# EAGLE library part CONN_ZIF_502078-3760 (library MOTO_LIB)
CONN ZIF,37CONT,.25MM,1MM HEIGHT,BOTTOM CONT
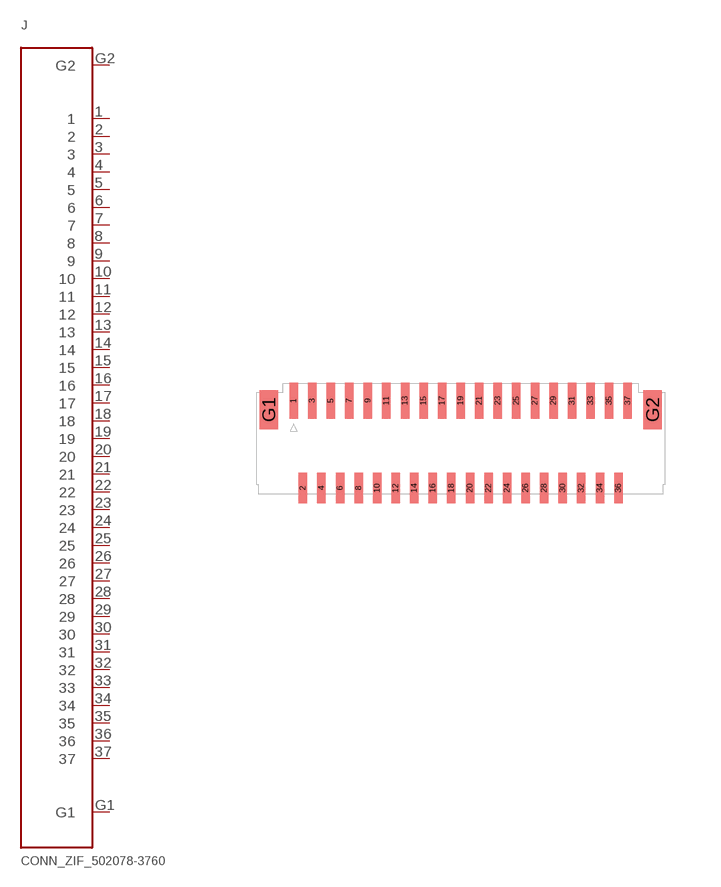
[diagram p20: symbol with the pads of CSF1X18_1X19PS0_5P39; footprint CSF1X18_1X19PS0_5P39]

Designator prefix J

## CONN_ZIF_502078-3760 (MPN: 502078-3760; SUPPLIER: MOLEX)  [CSF1X18_1X19PS0_5P39]
1  1
2  2
3  3
4  4
5  5
6  6
7  7
8  8
9  9
10  10
11  11
12  12
13  13
14  14
15  15
16  16
17  17
18  18
19  19
20  20
21  21
22  22
23  23
24  24
25  25
26  26
27  27
28  28
29  29
30  30
31  31
32  32
33  33
34  34
35  35
36  36
37  37
G1  G1
G2  G2

## Footprint CSF1X18_1X19PS0_5P39 (pad centres in mm)
smd 0.23 x 0.97: 1 -4.5,1.025; 3 -4,1.025; 5 -3.5,1.025; 7 -3,1.025; 9 -2.5,1.025; 11 -2,1.025; 13 -1.5,1.025; 15 -1,1.025; 17 -0.5,1.025; 19 0,1.025; 21 0.5,1.025; 23 1,1.025; 25 1.5,1.025; 27 2,1.025; 29 2.5,1.025; 31 3,1.025; 33 3.5,1.025; 35 4,1.025; 37 4.5,1.025
smd 0.23 x 0.82: 2 -4.25,-1.33; 4 -3.75,-1.33; 6 -3.25,-1.33; 8 -2.75,-1.33; 10 -2.25,-1.33; 12 -1.75,-1.33; 14 -1.25,-1.33; 16 -0.75,-1.33; 18 -0.25,-1.33; 20 0.25,-1.33; 22 0.75,-1.33; 24 1.25,-1.33; 26 1.75,-1.33; 28 2.25,-1.33; 30 2.75,-1.33; 32 3.25,-1.33; 34 3.75,-1.33; 36 4.25,-1.33
smd 0.5 x 1.05: G1 -5.17,0.785; G2 5.17,0.785